# Altium integrated library XBee.IntLib: 1 symbol
Pins are listed as number, name and electrical type; pins without a type are passive.

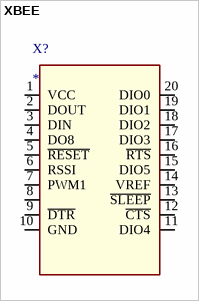
[diagram p0: symbol XBEE]

## XBEE
designator X?
ID: XBP24-Z7UIT-004; PDF: http://ftp1.digi.com/support/documentation/90000982_M.pdf; BUY_LINK: http://www.digikey.com/product-detail/en/XBP24-Z7UIT-004/602-1101-ND/1942307; PRICE: 34
footprint XBEE_PRO_ANT
footprint XBEE
pins: 1 VCC, 2 DOUT, 3 DIN, 4 DO8, 5 ~{RESET}, 6 RSSI, 7 PWM1, 8, 9 ~{DTR}, 10 GND, 11 DIO4, 12 ~{CTS}, 13 ~{SLEEP}, 14 VREF, 15 DIO5, 16 ~{RTS}, 17 DIO3, 18 DIO2, 19 DIO1, 20 DIO0